# Altium schematic symbol library SPMWHT541MP5WATMS4.SchLib: 1 symbol
Pins are listed as number, name and electrical type; pins without a type are passive.

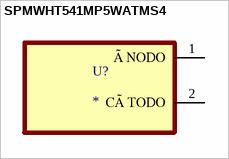
[diagram p0: symbol SPMWHT541MP5WATMS4]

## SPMWHT541MP5WATMS4
designator U?
MP: SPMWHT541MP5WATMS4; MF: {'manufacturer': u'Samsung Semiconductor,'}; Package: None; Value: *; Availability: Unavailable; Price: None
footprint LED_SPMWHT541MP5WAPKS4
pins: 1 ÃNODO (power), 2 CÃTODO (power)